# Altium footprint library DC-DC Converter.PcbLib: 4 footprints
Each footprint in its own frame and in the unit in brackets; x right, y up, seen from the top. Pads: shape width x height; smd on the part's side, far side on the other; paste and mask are expansions set on the pad; w line width, h text height; cw(c..) or ccw(c..) is an arc to the next point about the centre after c.
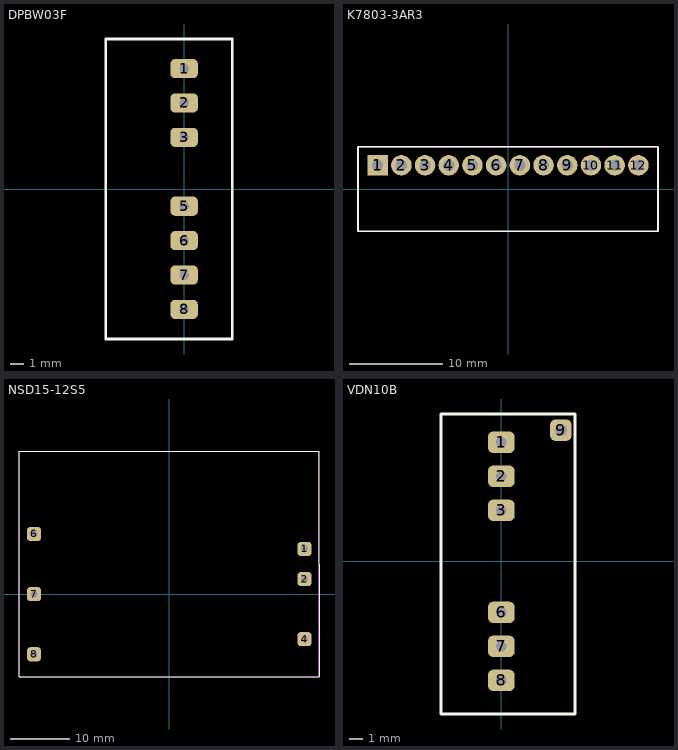
[diagram p0: the footprints below, top view; thin cyan lines are the x and y axes]

## DPBW03F [mm]
pads (7):
  rrect50% 2x1.4 hole 0.7: 1(0,8.75) 2(0,6.25) 3(0,3.75) 5(0,-1.25) 6(0,-3.75) 7(0,-6.25) 8(0,-8.75)
Top Overlay:
  lines w0.2: -5.7,-10.9 3.5,-10.9 3.5,10.9 -5.7,10.9 -5.7,-10.9
Border:
  lines w0.1: -5.7,-10.9 3.5,-10.9 3.5,10.9 -5.7,10.9 -5.7,-10.9
3D body "SPBW03 & DPBW03.stp": height 11.1, standoff -3.6, extent -5.7,-10.9 3.5,10.9

## K7803-3AR3 [mm]
pads (12):
  rect 2.2x2.2 hole 1.2: 1(-13.97,2.542)
  round 2.2 hole 1.2: 2(-11.43,2.542) 3(-8.89,2.542) 4(-6.35,2.542) 5(-3.81,2.542) 6(-1.27,2.542) 7(1.27,2.542) 8(3.81,2.542) 9(6.35,2.542) 10(8.89,2.542) 11(11.43,2.542) 12(13.97,2.542)
Top Overlay:
  lines w0.2: -16.075,-4.525 16.075,-4.525 16.075,4.525 -16.075,4.525 -16.075,-4.525
Border:
  lines w0.1: -16.075,-4.525 -16.075,4.525 16.075,4.525 16.075,-4.525 -16.075,-4.525
3D body "K7803-3AR3.stp": height 14.85, standoff -4.1, extent -16.075,-4.525 16.075,4.525

## NSD15-12S5 [mm]
pads (6):
  rrect50% 2.4x2.4 hole 1.2: 1(22.86,7.63) 2(22.86,2.55) 4(22.86,-7.61) 6(-22.86,10.16) 7(-22.86,0) 8(-22.86,-10.16)
Top Overlay:
  lines w0.2: -25.4,-13.96 -25.4,24.14 25.3,24.14 25.3,-13.96 -25.4,-13.96
Border:
  lines w0.1: -25.4,-13.96 25.3,-13.96 25.3,24.14 -25.4,24.14 -25.4,-13.96
3D body "NSD15-S.stp": height 9.82, standoff -3.51, extent -25.4,-13.97 25.4,24.13

## VDN10B [mm]
pads (7):
  rrect50% 2x1.6 hole 0.8: 1(0,8.89) 2(0,6.35) 3(0,3.81) 6(0,-3.81) 7(0,-6.35) 8(0,-8.89)
  rrect50% 1.6x1.6 hole 0.9: 9(4.45,9.79)
Top Overlay:
  lines w0.2: -4.5,-11.4 -4.5,11 5.5,11 5.5,-11.4 -4.5,-11.4
Border:
  lines w0.1: -4.5,-11.4 -4.5,11 5.5,11 5.5,-11.4 -4.5,-11.4
3D body "VDN10.stp": height 12.1, standoff -4.5, extent -4.5,-11.31 5.5,10.99